# EAGLE library part AD8319 (library AnalogDevices)
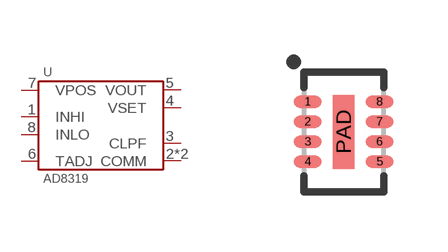
[diagram p7: symbol with the pads of VFDFN-8-3X2; footprint VFDFN-8-3X2]

Designator prefix U

## AD8319ACPZ-R7  [VFDFN-8-3X2]
1  INHI
2  COMM
3  CLPF
4  VSET
5  VOUT
6  TADJ
7  VPOS
8  INLO
PAD  COMM

## Footprint VFDFN-8-3X2 (pad centres in mm)
smd 0.7 x 0.3: 1 -0.9,0.75; 2 -0.9,0.25; 3 -0.9,-0.25; 4 -0.9,-0.75; 5 0.9,-0.75; 6 0.9,-0.25; 7 0.9,0.25; 8 0.9,0.75
smd 0.55 x 1.85: PAD 0,0